# Altium footprint library Max30205.PcbLib: 1 footprints
Each footprint in its own frame and in the unit in brackets; x right, y up, seen from the top. Pads: shape width x height; smd on the part's side, far side on the other; paste and mask are expansions set on the pad; w line width, h text height; cw(c..) or ccw(c..) is an arc to the next point about the centre after c.
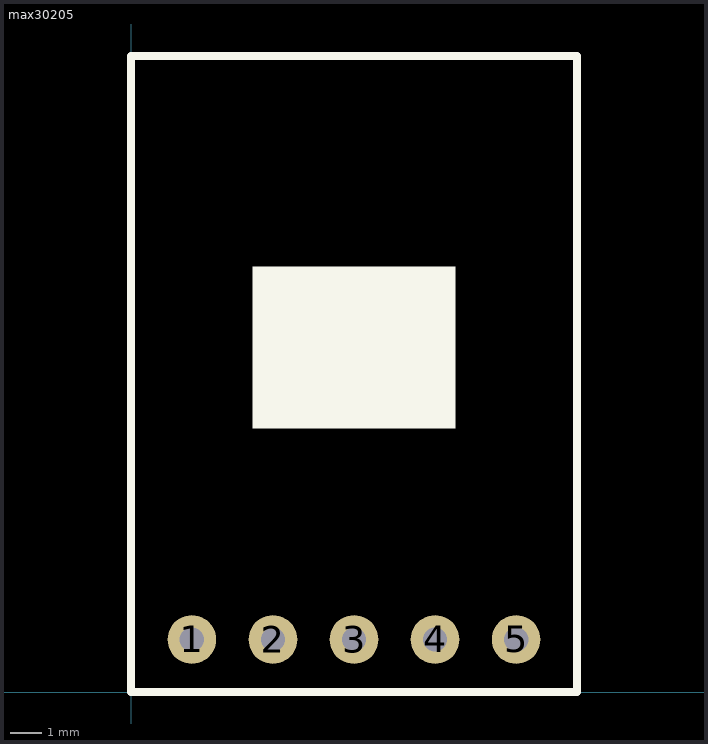
[diagram p0: the footprint, top view; thin cyan lines are the x and y axes]

## max30205 [mil]
pads (5):
  round 60 hole 30: 1(75,65) 2(175,65) 3(275,65) 4(375,65) 5(475,65)
Top Overlay:
  rectangle: 150,325 400,525
  lines w10: 0,0 550,0 550,785 0,785 0,0
3D body: height 157.48, standoff 0, extent -5,-5 555,790
3D body: height 196.85, standoff 39.37, extent 150,325 400,525
3D body: height 196.85, standoff 39.37, extent 50,125 450,250